# Altium footprint library 2.04-MSOP-0.65mm封装.PcbLib: 6 footprints
Each footprint in its own frame and in the unit in brackets; x right, y up, seen from the top. Pads: shape width x height; smd on the part's side, far side on the other; paste and mask are expansions set on the pad; w line width, h text height; cw(c..) or ccw(c..) is an arc to the next point about the centre after c.
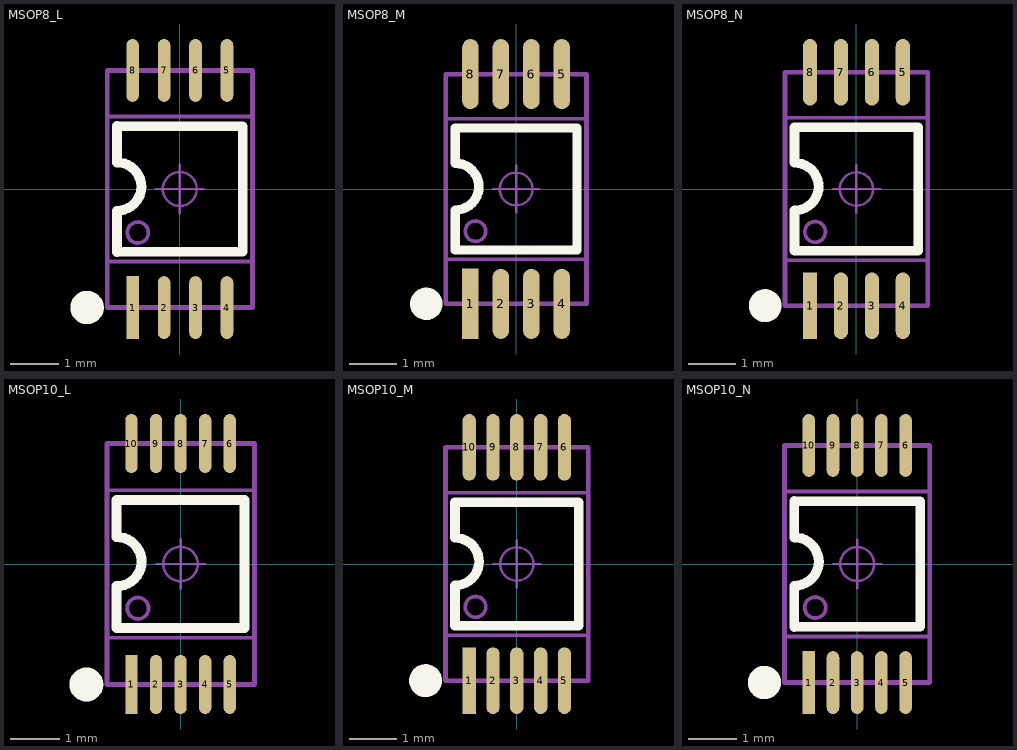
[diagram p0: the footprints below, top view; thin cyan lines are the x and y axes]

## MSOP8_L [mm] "塑封体长3mm，宽3mm，脚距0.65          淘宝ID:黄晶宝石"
pads (8):
  rect 0.26x1.3 smd: 1(-0.975,-2.45)
  oval 0.26x1.3 smd: 2(-0.325,-2.45) 3(0.325,-2.45) 4(0.975,-2.45) 5(0.975,2.45) 6(0.325,2.45) 7(-0.325,2.45) 8(-0.975,2.45)
Top Overlay:
  circle w0.381: c-1.917,-2.45 r0.155
  lines w0.2: -1.3,-1.3 1.3,-1.3 1.3,1.3 -1.3,1.3
  lines w0.203: -1.3,-1.3 -1.3,-0.46 ; -1.3,-0.45 ccw(c-1.3,0.058) -0.792,0.058 ; -1.3,0.55 cw(c-1.3,0.042) -0.792,0.042 ; -1.3,0.556 -1.3,1.3
Mechanical 13:
  circle w0.076: c-0.867,-0.9 r0.217
  lines w0.076: -1.5,-1.5 1.5,-1.5 1.5,1.5 -1.5,1.5 -1.5,-1.5
Mechanical 15:
  circle w0.05: c0,0 r0.35
  lines w0.05: -0.5,0 0.5,0 ; 0,-0.5 0,0.5
  lines w0.1: -1.5,-2.45 -1.5,2.45 1.5,2.45 1.5,-2.45 -1.5,-2.45
3D body "MSOP-8.STEP": height 0.95, standoff 0, extent -1.5,-2.45 1.5,2.45

## MSOP8_M [mm] "塑封体长3mm，宽3mm，脚距0.65          淘宝ID:黄晶宝石"
pads (8):
  rect 0.35x1.5 smd: 1(-0.975,-2.45)
  oval 0.35x1.5 smd: 2(-0.325,-2.45) 3(0.325,-2.45) 4(0.975,-2.45) 5(0.975,2.45) 6(0.325,2.45) 7(-0.325,2.45) 8(-0.975,2.45)
Top Overlay:
  circle w0.381: c-1.917,-2.45 r0.155
  lines w0.2: -1.3,-1.3 1.3,-1.3 1.3,1.3 -1.3,1.3
  lines w0.203: -1.3,-1.3 -1.3,-0.46 ; -1.3,-0.45 ccw(c-1.3,0.058) -0.792,0.058 ; -1.3,0.55 cw(c-1.3,0.042) -0.792,0.042 ; -1.3,0.556 -1.3,1.3
Mechanical 13:
  circle w0.076: c-0.867,-0.9 r0.217
  lines w0.076: -1.5,-1.5 -1.5,1.5 1.5,1.5 1.5,-1.5 -1.5,-1.5
Mechanical 15:
  circle w0.05: c0,0 r0.35
  lines w0.05: -0.5,0 0.5,0 ; 0,-0.5 0,0.5
  lines w0.1: -1.5,-2.45 1.5,-2.45 1.5,2.45 -1.5,2.45 -1.5,-2.45
3D body "MSOP-8.STEP": height 0.95, standoff 0, extent -1.5,-2.45 1.5,2.45

## MSOP8_N [mm] "塑封体长3mm，宽3mm，脚距0.65     淘宝ID:黄晶宝石"
pads (8):
  rect 0.3x1.4 smd: 1(-0.975,-2.45)
  oval 0.3x1.4 smd: 2(-0.325,-2.45) 3(0.325,-2.45) 4(0.975,-2.45) 5(0.975,2.45) 6(0.325,2.45) 7(-0.325,2.45) 8(-0.975,2.45)
Top Overlay:
  circle w0.381: c-1.917,-2.45 r0.155
  lines w0.2: -1.3,-1.3 1.3,-1.3 1.3,1.3 -1.3,1.3
  lines w0.203: -1.3,-1.3 -1.3,-0.46 ; -1.3,-0.45 ccw(c-1.3,0.058) -0.792,0.058 ; -1.3,0.55 cw(c-1.3,0.042) -0.792,0.042 ; -1.3,0.556 -1.3,1.3
Mechanical 13:
  circle w0.076: c-0.867,-0.9 r0.217
  lines w0.076: -1.5,-1.5 1.5,-1.5 1.5,1.5 -1.5,1.5 -1.5,-1.5
Mechanical 15:
  circle w0.05: c0,0 r0.35
  lines w0.05: -0.5,0 0.5,0 ; 0,-0.5 0,0.5
  lines w0.1: -1.5,-2.45 -1.5,2.45 1.5,2.45 1.5,-2.45 -1.5,-2.45
3D body "MSOP-8.STEP": height 0.95, standoff 0, extent -1.5,-2.45 1.5,2.45

## MSOP10_L [mm] "塑封体长3mm，宽3mm，脚距0.5"
pads (10):
  rect 0.25x1.2 smd: 1(-1,-2.45)
  oval 0.25x1.2 smd: 2(-0.5,-2.45) 3(0,-2.45) 4(0.5,-2.45) 5(1,-2.45) 6(1,2.45) 7(0.5,2.45) 8(0,2.45) 9(-0.5,2.45) 10(-1,2.45)
Top Overlay:
  circle w0.381: c-1.917,-2.45 r0.155
  lines w0.2: -1.3,-1.3 1.3,-1.3 1.3,1.3 -1.3,1.3
  lines w0.203: -1.3,-1.3 -1.3,-0.46 ; -1.3,-0.45 ccw(c-1.3,0.058) -0.792,0.058 ; -1.3,0.55 cw(c-1.3,0.042) -0.792,0.042 ; -1.3,0.556 -1.3,1.3
Mechanical 13:
  circle w0.076: c-0.867,-0.9 r0.217
  lines w0.076: -1.5,-1.5 -1.5,1.5 1.5,1.5 1.5,-1.5 -1.5,-1.5
Mechanical 15:
  circle w0.05: c0,0 r0.35
  lines w0.05: -0.5,0 0.5,0 ; 0,-0.5 0,0.5
  lines w0.1: -1.5,-2.45 1.5,-2.45 1.5,2.45 -1.5,2.45 -1.5,-2.45
3D body "MSOP-10.STEP": height 0.95, standoff 0, extent -1.5,-2.45 1.5,2.45

## MSOP10_M [mm] "塑封体长3mm，宽3mm，脚距0.5mm      淘宝ID:黄晶宝石"
pads (10):
  rect 0.28x1.4 smd: 1(-1,-2.45)
  oval 0.28x1.4 smd: 2(-0.5,-2.45) 3(0,-2.45) 4(0.5,-2.45) 5(1,-2.45) 6(1,2.45) 7(0.5,2.45) 8(0,2.45) 9(-0.5,2.45) 10(-1,2.45)
Top Overlay:
  circle w0.381: c-1.917,-2.45 r0.155
  lines w0.2: -1.3,-1.3 1.3,-1.3 1.3,1.3 -1.3,1.3
  lines w0.203: -1.3,-1.3 -1.3,-0.46 ; -1.3,-0.45 ccw(c-1.3,0.058) -0.792,0.058 ; -1.3,0.55 cw(c-1.3,0.042) -0.792,0.042 ; -1.3,0.556 -1.3,1.3
Mechanical 13:
  circle w0.076: c-0.867,-0.9 r0.217
  lines w0.076: -1.5,-1.5 1.5,-1.5 1.5,1.5 -1.5,1.5 -1.5,-1.5
Mechanical 15:
  circle w0.05: c0,0 r0.35
  lines w0.05: -0.5,0 0.5,0 ; 0,-0.5 0,0.5
  lines w0.1: -1.5,-2.45 -1.5,2.45 1.5,2.45 1.5,-2.45 -1.5,-2.45
3D body "MSOP-10.STEP": height 0.95, standoff 0, extent -1.5,-2.45 1.5,2.45

## MSOP10_N [mm] "塑封体长3mm，宽3mm，脚距0.5MM   淘宝ID:黄晶宝石"
pads (10):
  rect 0.26x1.3 smd: 1(-1,-2.45)
  oval 0.26x1.3 smd: 2(-0.5,-2.45) 3(0,-2.45) 4(0.5,-2.45) 5(1,-2.45) 6(1,2.45) 7(0.5,2.45) 8(0,2.45) 9(-0.5,2.45) 10(-1,2.45)
Top Overlay:
  circle w0.381: c-1.917,-2.45 r0.155
  lines w0.2: -1.3,-1.3 1.3,-1.3 1.3,1.3 -1.3,1.3
  lines w0.203: -1.3,-1.3 -1.3,-0.46 ; -1.3,-0.45 ccw(c-1.3,0.058) -0.792,0.058 ; -1.3,0.55 cw(c-1.3,0.042) -0.792,0.042 ; -1.3,0.556 -1.3,1.3
Mechanical 13:
  circle w0.076: c-0.867,-0.9 r0.217
  lines w0.076: -1.5,-1.5 1.5,-1.5 1.5,1.5 -1.5,1.5 -1.5,-1.5
Mechanical 15:
  circle w0.05: c0,0 r0.35
  lines w0.05: -0.5,0 0.5,0 ; 0,-0.5 0,0.5
  lines w0.1: -1.5,-2.45 -1.5,2.45 1.5,2.45 1.5,-2.45 -1.5,-2.45
3D body "MSOP-10.STEP": height 0.95, standoff 0, extent -1.5,-2.45 1.5,2.45